# Altium footprint library Bauteilbibliothek.PcbLib: 19 footprints (part 1 of 2)
Each footprint in its own frame and in the unit in brackets; x right, y up, seen from the top. Pads: shape width x height; smd on the part's side, far side on the other; paste and mask are expansions set on the pad; w line width, h text height; cw(c..) or ccw(c..) is an arc to the next point about the centre after c.
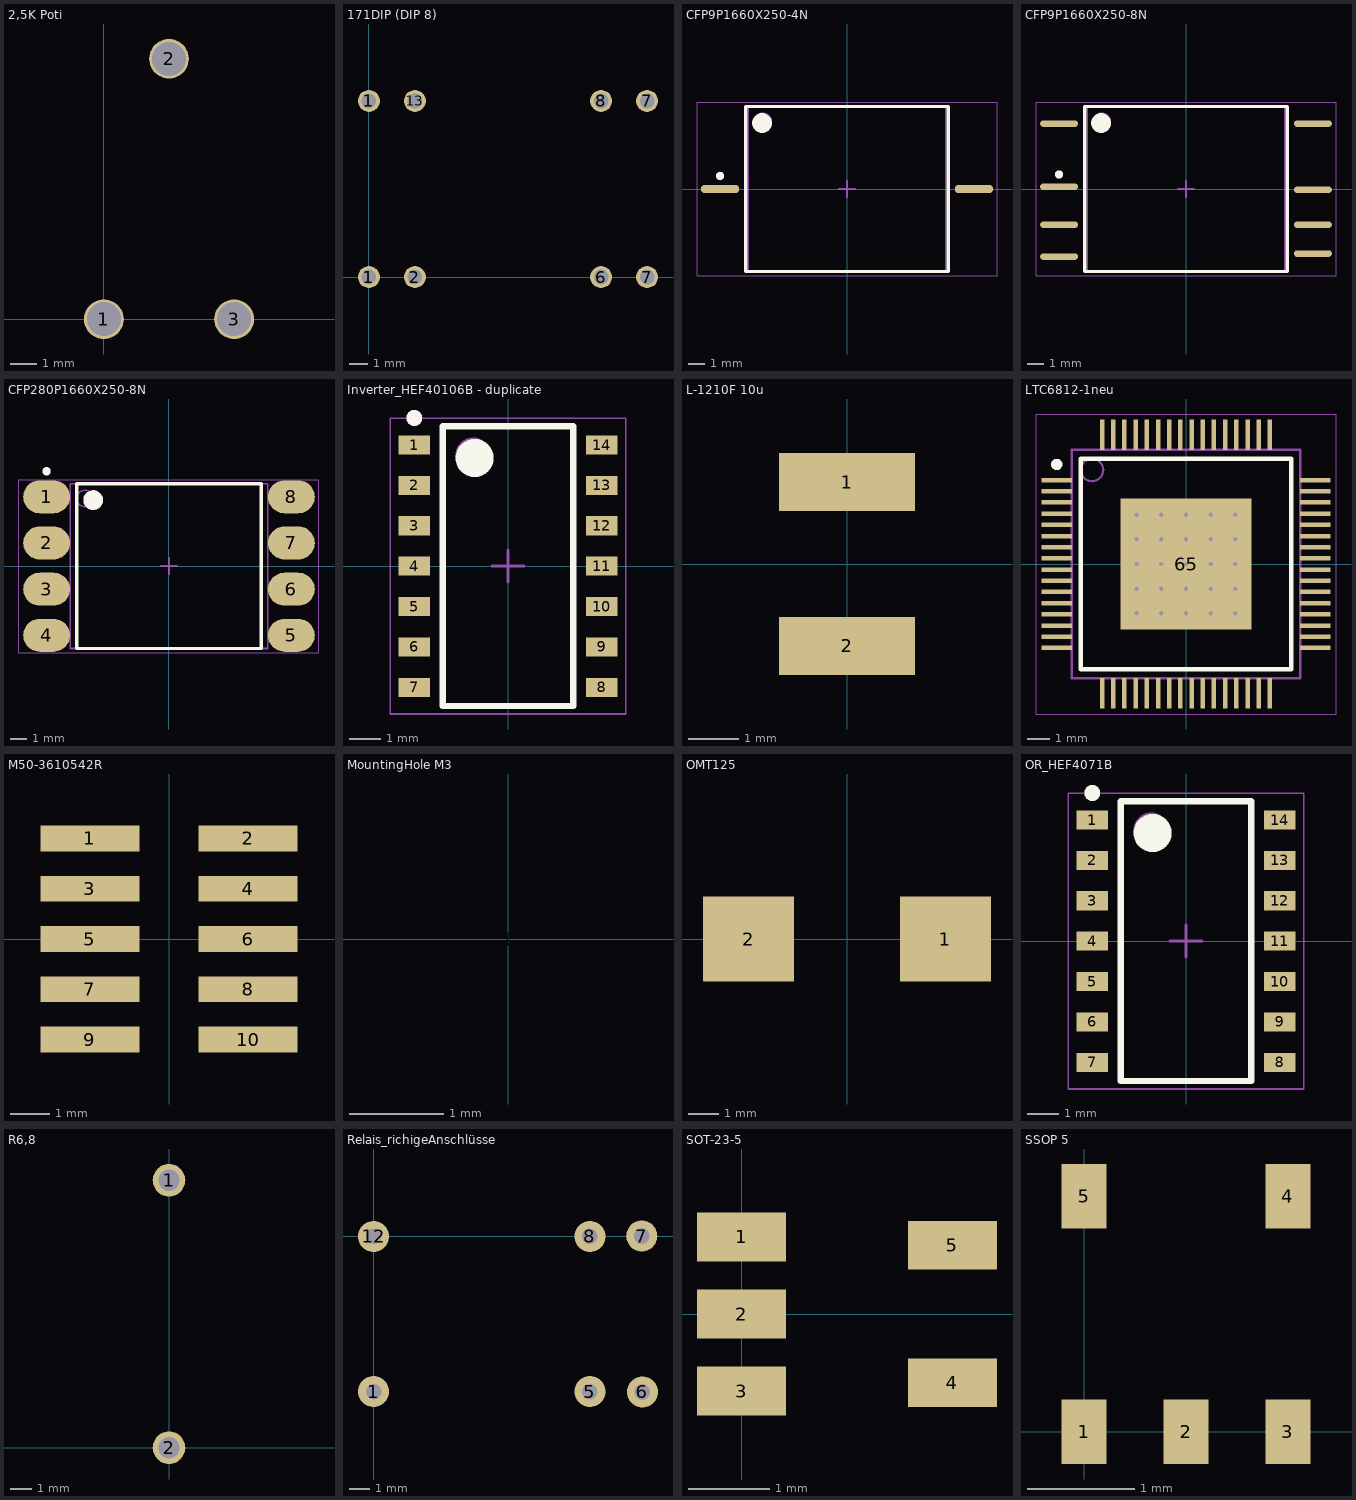
[diagram p0: the footprints below, top view; thin cyan lines are the x and y axes]

## 2,5K Poti [mm]
pads (3):
  round 1.524 hole 1.3: 1(0,0) 2(2.5,10) 3(5,0)

## 171DIP (DIP 8) [mm] "171DIP (DIP 8)"
pads (8):
  round 1.2 hole 0.8: 1(0,0) 1(0,9.65) 2(2.52,0) 6(12.72,0) 7(15.24,0) 7(15.24,9.65) 8(12.72,9.65) 13(2.52,9.65)

## CFP9P1660X250-4N [mm] "CFP, 4-Leads, Body 10,00x12,00mm (max), Pitch 0,09mm, IPC Medium Density"
height 2.5
pads (4):
  oval 2.3x0.4 smd: 1(-7.7,0.045) 2(-7.7,-0.045) 3(7.7,-0.045) 4(7.7,0.045)
Top Overlay:
  circle w0.25: c-7.7,0.795 r0.125
  circle w0.6: c-5.15,4 r0.3
  lines w0.2: -6.15,-5 6.15,-5 6.15,5 -6.15,5 -6.15,-5
3D Bodies (Mech13):
  circle w0.1: c-5.1,4.1 r0.5
  lines w0.1: -6,-5 6,-5 6,5 -6,5 -6,-5
Mechanical 15:
  lines w0.05: -9.1,-5.25 9.1,-5.25 9.1,5.25 -9.1,5.25 -9.1,-5.25
  lines w0.1: -0.5,0 0.5,0 ; 0,-0.5 0,0.5
3D body: height 2.5, standoff 0.1, extent -6,-5 6,5

## CFP9P1660X250-8N [mm] "CFP, 8-Leads, Body 10,00x12,00mm (max), Pitch 0,09mm, IPC Medium Density"
height 2.5
pads (8):
  oval 2.3x0.4 smd: 1(-7.7,0.135) 2(-7.7,-2.165) 3(-7.7,-4.1) 4(-7.7,3.965) 5(7.7,3.965) 6(7.7,-0.045) 7(7.7,-2.165) 8(7.7,-3.92)
Top Overlay:
  circle w0.25: c-7.7,0.885 r0.125
  circle w0.6: c-5.15,4 r0.3
  lines w0.2: -6.15,-5 6.15,-5 6.15,5 -6.15,5 -6.15,-5
3D Bodies (Mech13):
  circle w0.1: c-5.1,4.1 r0.5
  lines w0.1: -6,-5 6,-5 6,5 -6,5 -6,-5
Mechanical 15:
  lines w0.05: -9.1,-5.25 9.1,-5.25 9.1,5.25 -9.1,5.25 -9.1,-5.25
  lines w0.1: -0.5,0 0.5,0 ; 0,-0.5 0,0.5
3D body: height 2.5, standoff 0.1, extent -6,-5 6,5

## CFP280P1660X250-8N [mm] "CFP, 8-Leads, Body 10,00x12,00mm (max), Pitch 2,80mm, IPC Medium Density"
height 2.5
pads (8):
  oval 2.85x2 smd: 1(-7.425,4.2) 2(-7.425,1.4) 3(-7.425,-1.4) 4(-7.425,-4.2) 5(7.425,-4.2) 6(7.425,-1.4) 7(7.425,1.4) 8(7.425,4.2)
Top Overlay:
  circle w0.25: c-7.425,5.75 r0.125
  circle w0.6: c-4.6,4 r0.3
  lines w0.2: -5.6,-5 5.6,-5 5.6,5 -5.6,5 -5.6,-5
3D Bodies (Mech13):
  circle w0.1: c-5.1,4.1 r0.5
  lines w0.1: -6,-5 6,-5 6,5 -6,5 -6,-5
Mechanical 15:
  lines w0.05: -9.1,-5.25 9.1,-5.25 9.1,5.25 -9.1,5.25 -9.1,-5.25
  lines w0.1: -0.5,0 0.5,0 ; 0,-0.5 0,0.5
3D body: height 2.5, standoff 0.1, extent -6,-5 6,5

## Inverter_HEF40106B - duplicate [mm] "Inverter Schmitt trigger for IMD"
height 1.75
pads (14):
  rect 1x0.6 smd: 1(-2.95,3.81) 2(-2.95,2.54) 3(-2.95,1.27) 4(-2.95,0) 5(-2.95,-1.27) 6(-2.95,-2.54) 7(-2.95,-3.81) 8(2.95,-3.81) 9(2.95,-2.54) 10(2.95,-1.27) 11(2.95,0) 12(2.95,1.27) 13(2.95,2.54) 14(2.95,3.81)
Top Overlay:
  circle w0.6: c-1.05,3.4 r0.3
  circle w0.25: c-2.95,4.66 r0.125
  lines w0.2: -2.05,-4.4 2.05,-4.4 2.05,4.4 -2.05,4.4 -2.05,-4.4
3D Bodies (Mech13):
  circle w0.1: c-1.1,3.5 r0.5
  lines w0.1: -2,-4.4 2,-4.4 2,4.4 -2,4.4 -2,-4.4
Mechanical 15:
  lines w0.05: -3.7,-4.65 3.7,-4.65 3.7,4.65 -3.7,4.65 -3.7,-4.65
  lines w0.1: -0.5,0 0.5,0 ; 0,-0.5 0,0.5
3D body: height 1.75, standoff 0.1, extent -2,-4.4 2,4.4

## L-1210F 10u [mm]
pads (2):
  rect 2.7x1.15 smd: 1(0,1.625) 2(0,-1.625)

## LTC6812-1neu [mm] "TSQFP, 64-Leads, Body 10,20x10,20mm, Pitch 0,50mm, Thermal Pad 5,84x5,84mm, IPC Medium Density"
height 1.6
pads (65):
  rect 1.35x0.2 smd: 1(-5.775,3.75) 2(-5.775,3.25) 3(-5.775,2.75) 4(-5.775,2.25) 5(-5.775,1.75) 6(-5.775,1.25) 7(-5.775,0.75) 8(-5.775,0.25) 9(-5.775,-0.25) 10(-5.775,-0.75) 11(-5.775,-1.25) 12(-5.775,-1.75) 13(-5.775,-2.25) 14(-5.775,-2.75) 15(-5.775,-3.25) 16(-5.775,-3.75) 33(5.775,-3.75) 34(5.775,-3.25) 35(5.775,-2.75) 36(5.775,-2.25) 37(5.775,-1.75) 38(5.775,-1.25) 39(5.775,-0.75) 40(5.775,-0.25) 41(5.775,0.25) 42(5.775,0.75) 43(5.775,1.25) 44(5.775,1.75) 45(5.775,2.25) 46(5.775,2.75) 47(5.775,3.25) 48(5.775,3.75)
  rect 0.2x1.35 smd: 17(-3.75,-5.775) 18(-3.25,-5.775) 19(-2.75,-5.775) 20(-2.25,-5.775) 21(-1.75,-5.775) 22(-1.25,-5.775) 23(-0.75,-5.775) 24(-0.25,-5.775) 25(0.25,-5.775) 26(0.75,-5.775) 27(1.25,-5.775) 28(1.75,-5.775) 29(2.25,-5.775) 30(2.75,-5.775) 31(3.25,-5.775) 32(3.75,-5.775) 49(3.75,5.775) 50(3.25,5.775) 51(2.75,5.775) 52(2.25,5.775) 53(1.75,5.775) 54(1.25,5.775) 55(0.75,5.775) 56(0.25,5.775) 57(-0.25,5.775) 58(-0.75,5.775) 59(-1.25,5.775) 60(-1.75,5.775) 61(-2.25,5.775) 62(-2.75,5.775) 63(-3.25,5.775) 64(-3.75,5.775)
  rect 5.84x5.84 smd: 65(0,0)
via 2.2,-2.2 diameter 0.5 hole 0.2
via 1.1,-2.2 diameter 0.5 hole 0.2
via 0,-2.2 diameter 0.5 hole 0.2
via -1.1,-2.2 diameter 0.5 hole 0.2
via -2.2,-2.2 diameter 0.5 hole 0.2
via 2.2,-1.1 diameter 0.5 hole 0.2
via 1.1,-1.1 diameter 0.5 hole 0.2
via 0,-1.1 diameter 0.5 hole 0.2
via -1.1,-1.1 diameter 0.5 hole 0.2
via -2.2,-1.1 diameter 0.5 hole 0.2
via 2.2,0 diameter 0.5 hole 0.2
via 1.1,0 diameter 0.5 hole 0.2
via 0,0 diameter 0.5 hole 0.2
via -1.1,0 diameter 0.5 hole 0.2
via -2.2,0 diameter 0.5 hole 0.2
via 2.2,1.1 diameter 0.5 hole 0.2
via 1.1,1.1 diameter 0.5 hole 0.2
via 0,1.1 diameter 0.5 hole 0.2
via -1.1,1.1 diameter 0.5 hole 0.2
via -2.2,1.1 diameter 0.5 hole 0.2
via 2.2,2.2 diameter 0.5 hole 0.2
via 1.1,2.2 diameter 0.5 hole 0.2
via 0,2.2 diameter 0.5 hole 0.2
via -1.1,2.2 diameter 0.5 hole 0.2
via -2.2,2.2 diameter 0.5 hole 0.2
Top Overlay:
  circle w0.25: c-5.775,4.45 r0.125
  lines w0.2: -4.7,-4.7 4.7,-4.7 4.7,4.7 -4.7,4.7 -4.7,-4.7
3D Bodies (Mech13):
  circle w0.1: c-4.2,4.2 r0.5
  lines w0.1: -5.1,-5.1 5.1,-5.1 5.1,5.1 -5.1,5.1 -5.1,-5.1
Mechanical 15:
  lines w0.05: -6.7,-6.7 6.7,-6.7 6.7,6.7 -6.7,6.7 -6.7,-6.7
  lines w0.1: -0.5,0 0.5,0 ; 0,-0.5 0,0.5
3D body: height 1.6, standoff 1.35, extent -5.1,-5.1 5.1,5.1

## M50-3610542R [mm]
pads (10):
  rect 2.5x0.65 smd: 1(-2,2.54) 2(2,2.54) 3(-2,1.27) 4(2,1.27) 5(-2,0) 6(2,0) 7(-2,-1.27) 8(2,-1.27) 9(-2,-2.54) 10(2,-2.54)

## MountingHole M3 [mm]
pads (1):
  round 3.2 on Drill Guide: 1(0,0)

## OMT125 [mm]
pads (2):
  rect 3x2.8 smd: 1(3.25,0) 2(-3.25,0)
Top Paste:
  lines w0.254: -4.953,-1.651 4.953,-1.651 4.953,1.651 -4.953,1.651 -4.953,-1.651

## OR_HEF4071B [mm] "OR Gatter for IMD Quad 2 input"
height 1.75
pads (14):
  rect 1x0.6 smd: 1(-2.95,3.81) 2(-2.95,2.54) 3(-2.95,1.27) 4(-2.95,0) 5(-2.95,-1.27) 6(-2.95,-2.54) 7(-2.95,-3.81) 8(2.95,-3.81) 9(2.95,-2.54) 10(2.95,-1.27) 11(2.95,0) 12(2.95,1.27) 13(2.95,2.54) 14(2.95,3.81)
Top Overlay:
  circle w0.6: c-1.05,3.4 r0.3
  circle w0.25: c-2.95,4.66 r0.125
  lines w0.2: -2.05,-4.4 2.05,-4.4 2.05,4.4 -2.05,4.4 -2.05,-4.4
3D Bodies (Mech13):
  circle w0.1: c-1.1,3.5 r0.5
  lines w0.1: -2,-4.4 2,-4.4 2,4.4 -2,4.4 -2,-4.4
Mechanical 15:
  lines w0.05: -3.7,-4.65 3.7,-4.65 3.7,4.65 -3.7,4.65 -3.7,-4.65
  lines w0.1: -0.5,0 0.5,0 ; 0,-0.5 0,0.5
3D body: height 1.75, standoff 0.1, extent -2,-4.4 2,4.4

## R6,8 [mil]
pads (2):
  round 60 hole 39.37: 1(0,492.13) 2(0,0)

## Relais_richigeAnschlüsse [mil] "K1-shutdown HJR4102"
pads (6):
  round 60 hole 30: 1(0,-299.21) 5(417.32,-299.21) 6(518.68,-300.03) 7(517.39,0.81) 8(417.32,0) 12(0,0)

## SOT-23-5 [mm]
pads (5):
  rect 1.1x0.6 smd: 1(0,0.95) 2(0,0) 3(0,-0.95) 4(2.6,-0.85) 5(2.6,0.85)

## SSOP 5 [mm]
pads (5):
  rect 0.42x0.6 smd: 1(0,0) 2(0.95,0) 3(1.9,0) 4(1.9,2.2) 5(0,2.2)